# Altium schematic symbol library EPY.00.250.NTN.SCHLIB: 1 symbol
Pins are listed as number, name and electrical type; pins without a type are passive.

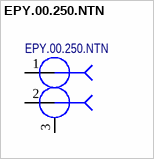
[diagram p0: symbol EPY.00.250.NTN]

## EPY.00.250.NTN
designator X?
LEMO Connector     coax pin EPY.00.250.NTN Elbow receptacle with two vertical socket, for printed circuit, Female Contact Drawing Rev. 00 Source: http://www.lemo.com/catalog/ROW/UK_English/00and01Coaxial_en.pdf; Назначение: LEMO Connector, coax 2-pin; Потребление, Вт: 0.0; ComponentLink1Description: DataSheet; ComponentLink1URL: https://www.lemo.com/pdf/EPY.00.250.NTN.pdf; Наименование: EPY.00.250.NTN
footprint EPY.00.250.NTN
pins: 1 Signal 1, 2 Signal 2, 3 GND